# Altium schematic symbol library Pads.SchLib: 3 symbols
Pins are listed as number, name and electrical type; pins without a type are passive.

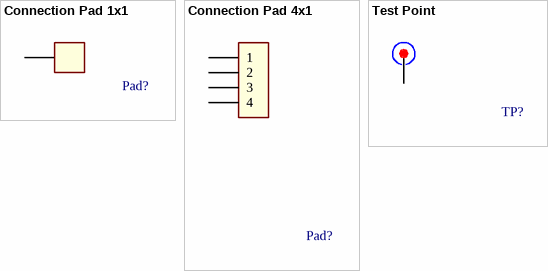
[diagram p0: symbols Connection Pad 1x1 to Test Point]

## Connection Pad 1x1
designator Pad?, comment Connection Pad  (value not drawn)  (no BOM)
footprint Connection pad 1x1
pins: 1 (power)

## Connection Pad 4x1
designator Pad?, comment Connection Pad  (value not drawn)  (no BOM)
footprint Connection Pad 4x1
pins: 1 (power), 2 (power), 3 (power), 4 (power)

## Test Point
designator TP?  (value not drawn)  (net tie, no BOM)
footprint Test Point
pins: 1 (power)